# Altium footprint library Soardra.PcbLib: 139 footprints (part 2 of 9)
Each footprint in its own frame and in the unit in brackets; x right, y up, seen from the top. Pads: shape width x height; smd on the part's side, far side on the other; paste and mask are expansions set on the pad; w line width, h text height; cw(c..) or ccw(c..) is an arc to the next point about the centre after c.
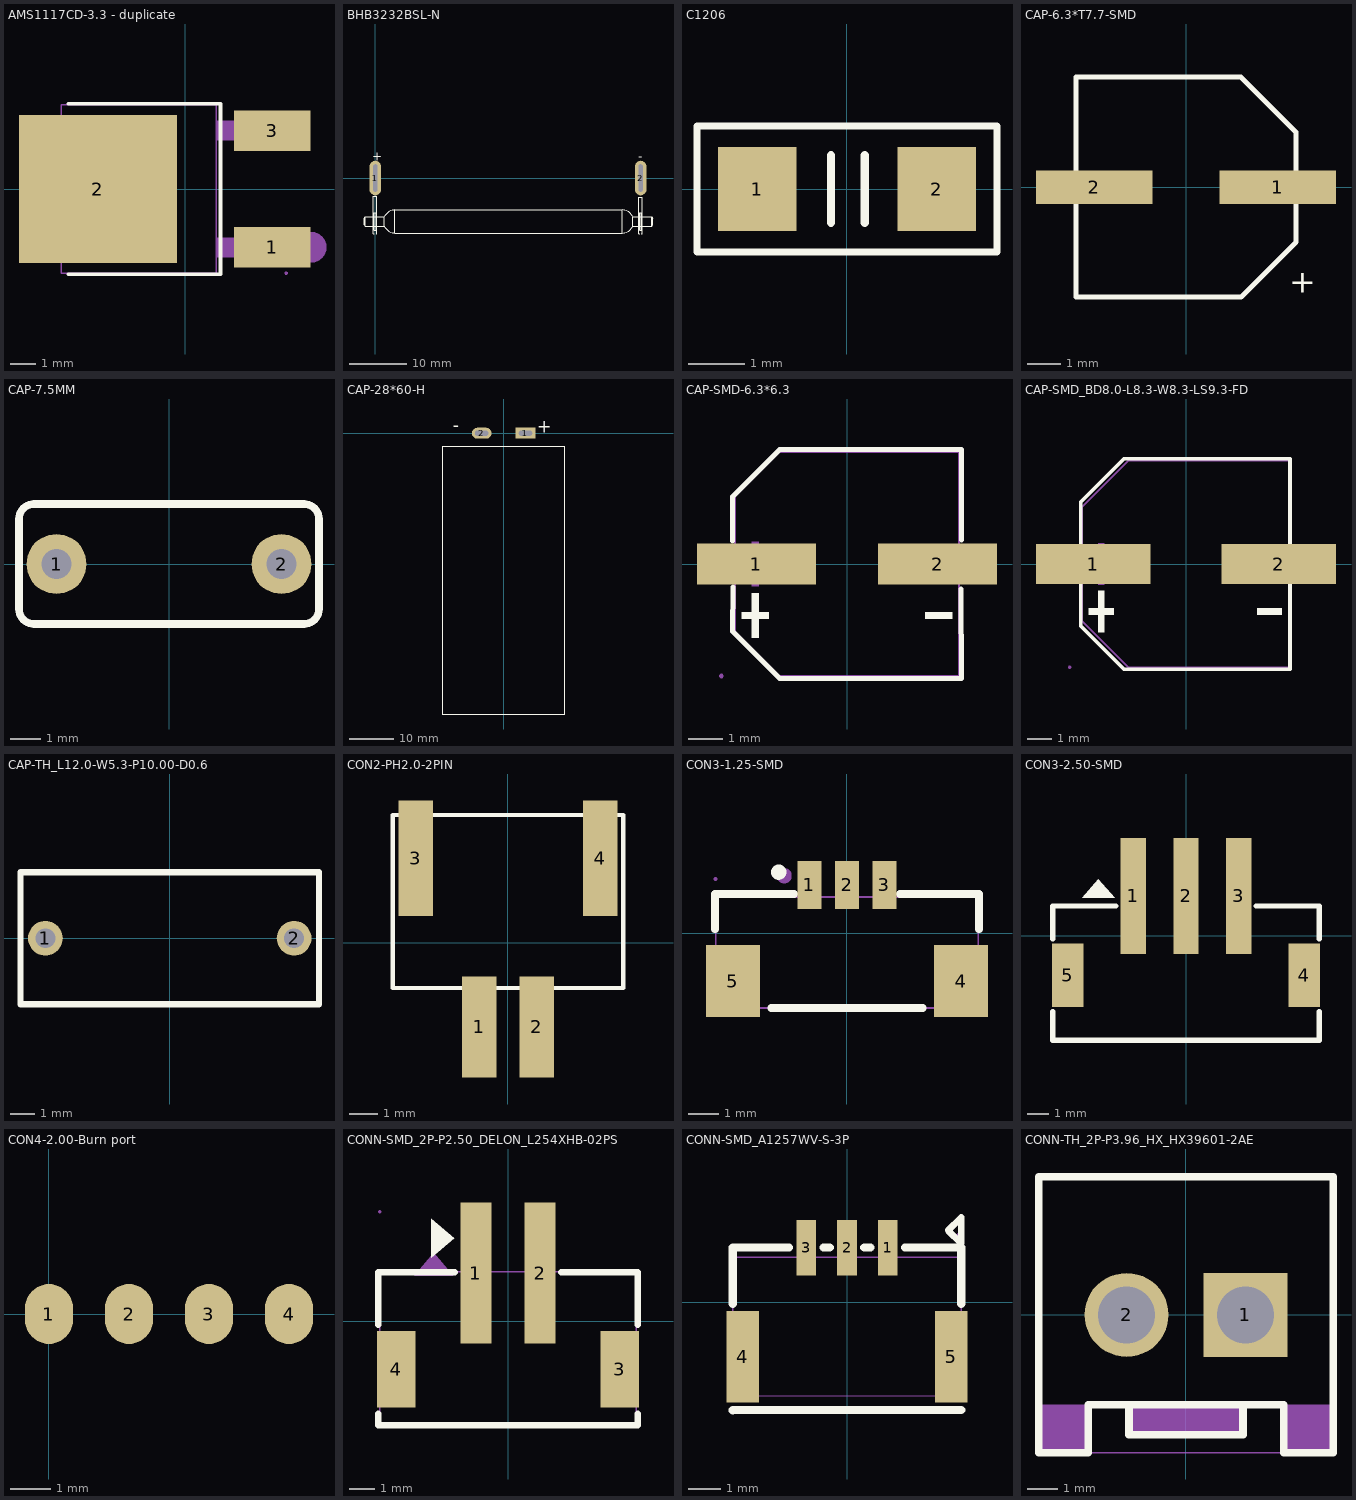
[diagram p1: the footprints below, top view; thin cyan lines are the x and y axes]

## AMS1117CD-3.3 - duplicate [mm] "LDO"
height 0.5
pads (3):
  rect 3x1.6 smd mask+0.051: 1(3.424,-2.29) 3(3.424,2.29)
  rect 6.2x5.8 smd mask+0.051: 2(-3.424,0)
Top Overlay:
  lines w0.152: -4.585,-3.346 1.383,-3.346 1.383,3.346 -4.585,3.346
Mechanical 6:
  circle w0.6: c4.953,-2.286 r0.3
Mechanical 15:
  region: -4.954,2.505 -0.938,2.505 -0.938,-2.505 -4.954,-2.505 -5.954,-1.505 -5.954,1.505
  region: 2.371,1.91 2.371,2.67 3.961,2.67 3.961,1.91
  region: 1.211,1.91 1.211,2.67 2.381,2.67 2.381,1.91
  region: 2.371,-2.67 2.371,-1.91 3.961,-1.91 3.961,-2.67
  region: 1.211,-2.67 1.211,-1.91 2.381,-1.91 2.381,-2.67
  region: 4.021,-3.3 4.021,-3.275 3.986,-3.24 3.937,-3.24 3.901,-3.275 3.901,-3.3 3.901,-3.325 3.937,-3.36 3.986,-3.36 4.021,-3.325 4.021,-3.3
  lines w0.051: -4.874,-3.3 -4.874,3.3 1.221,3.3 1.221,-3.3 -4.874,-3.3

## BHB3232BSL-N [mm]
height 0.5
pads (2):
  oval 2x6 hole 0.7 slot 4.7 at 90 deg: 1(0,0) 2(46,0)
Top Overlay:
  lines w0.15: -0.18,-9.694 -0.33,-9.694 -0.33,-3.163 0.27,-3.163 0.27,-9.694 0.12,-9.694 ; 45.82,-9.694 45.67,-9.694 45.67,-3.343 46.27,-3.343 46.27,-9.694 46.12,-9.694 ; -1.703,-8.329 -1.703,-6.729 ; -1.703,-8.329 1.564,-8.329 ; -1.703,-8.329 -1.903,-8.129 -1.903,-7.529 -1.903,-6.929 -1.703,-6.729 ; -1.703,-6.729 1.564,-6.729 ; 1.564,-8.329 ccw(c3.397,-7.529) 3.397,-9.529 ; 1.564,-8.329 1.564,-7.529 1.564,-6.729 ; 1.564,-6.729 cw(c3.397,-7.529) 3.397,-5.529 ; 3.397,-9.529 3.397,-5.529 ; 3.397,-9.529 42.797,-9.529 ; 3.397,-5.529 42.797,-5.529 ; 42.797,-9.529 ccw(c42.797,-7.529) 44.63,-8.329 ; 42.797,-9.529 42.797,-7.529 42.797,-5.529 ; 42.797,-5.529 cw(c42.797,-7.529) 44.63,-6.729 ; 44.63,-8.329 44.63,-6.729 ; 44.63,-8.329 47.897,-8.329 ; 44.63,-6.729 47.897,-6.729 ; 47.897,-8.329 47.897,-7.529 47.897,-6.729 ; 47.897,-8.329 48.097,-8.129 48.097,-6.929 47.897,-6.729 ; -0.18,-9.044 0.12,-9.044 0.12,-6.044 -0.18,-6.044 -0.18,-9.044 ; 45.82,-9.044 46.12,-9.044 46.12,-6.044 45.82,-6.044 45.82,-9.044
  text "-" at 45.563,4.18 h1.52
  text "+" at -0.503,4.37 h1.52

## C1206 [mm]
pads (2):
  rect 1.4x1.5 smd: 1(-1.6,0) 2(1.6,0)
Top Overlay:
  lines w0.127: -2.675,-1.125 -2.675,1.125 2.675,1.125 2.675,-1.125 -2.675,-1.125
  lines w0.15: -0.285,-0.6 -0.285,0.6 ; 0.315,-0.6 0.315,0.6
3D body "1206_C.step": height 0, standoff -0.94, extent -1.651,-0.762 1.549,0.838

## CAP-6.3*T7.7-SMD [mm]
height 0.5
pads (2):
  rect 3.5x1 smd: 1(2.75,0) 2(-2.75,0)
Top Overlay:
  lines w0.15: -3.3,-3.3 -3.3,3.3 1.65,3.3 3.3,1.65 3.3,-1.65 1.65,-3.3 -3.3,-3.3
  text "+" at 3.098,-3.407 h1.2
3D body: height 8.05, standoff 8, extent -3.378,-2.479 -2.28,2.5
3D body: height 8, standoff 1, extent -3.35,-3.35 3.35,3.35
3D body: height 1, standoff 0, extent -3.3,-3.3 3.3,3.3

## CAP-7.5MM [mm]
pads (2):
  round 2 hole 1: 1(-3.75,0) 2(3.75,0)
Top Overlay:
  lines w0.254: -5,-1.5 ccw(c-4.5,-1.5) -4.5,-2 4.5,-2 ccw(c4.5,-1.5) 5,-1.5 5,1.5 ccw(c4.5,1.5) 4.5,2 -4.5,2 ccw(c-4.5,1.5) -5,1.5 -5,-1.5
3D body: height 9.5, standoff 0, extent -5,-2 5,2

## CAP-28*60-H [mm]
height 0.5
pads (2):
  rect 4.5x2.5 hole 1.2 slot 3 at 0 deg: 1(5,0)
  oval 4.5x2.5 hole 1.2 slot 3 at 0 deg: 2(-5,0)
Top Overlay:
  lines w0.15: -14,-64 13.99,-64 ; -14,-63.99 -14,-3 13.99,-3 ; 14,-64 14,-3
  text "+" at 11.024,-0.934 h5
  text "-" at -10.152,-0.625 h5
3D body: height 18.99, standoff -5.99, extent -12.457,-63.226 12.543,-3.226

## CAP-SMD-6.3*6.3 [mm]
pads (2):
  rect 3.5x1.2 smd mask+0.051: 1(-2.67,0) 2(2.67,0)
Top Overlay:
  region: 3.102,-1.419 3.102,-1.617 2.31,-1.617 2.31,-1.419
  region: -3.102,-1.419 -3.102,-1.617 -2.31,-1.617 -2.31,-1.419
  region: -2.805,-0.858 -2.805,-2.178 -2.607,-2.178 -2.607,-0.858
  lines w0.152: -3.376,0.686 -3.376,1.98 -1.98,3.376 3.376,3.376 3.369,0.708 ; -3.362,-0.686 -3.376,-1.981 -1.981,-3.376 3.376,-3.376 3.356,-0.739
Mechanical 6:
  region: 3.102,0.099 3.102,-0.099 2.31,-0.099 2.31,0.099
  region: -3.102,0.099 -3.102,-0.099 -2.31,-0.099 -2.31,0.099
  region: -2.805,0.66 -2.805,-0.66 -2.607,-0.66 -2.607,0.66
Mechanical 15:
  region: -3.702,0.35 -1.052,0.35 -1.052,-0.35 -3.702,-0.35
  region: 1.052,0.35 3.701,0.35 3.701,-0.35 1.052,-0.35
  region: -3.642,-3.3 -3.642,-3.275 -3.677,-3.24 -3.727,-3.24 -3.762,-3.275 -3.762,-3.3 -3.762,-3.325 -3.727,-3.36 -3.677,-3.36 -3.642,-3.325
  lines w0.051: -3.3,-1.98 -1.98,-3.3 3.3,-3.3 3.3,3.3 -1.98,3.3 -3.3,1.98 -3.3,-1.98

## CAP-SMD_BD8.0-L8.3-W8.3-LS9.3-FD [mm]
pads (2):
  rect 4.6x1.6 smd: 1(-3.724,0) 2(3.724,0)
Top Overlay:
  region: 3.851,-1.785 3.851,-2.033 2.855,-2.033 2.855,-1.785
  region: -3.901,-1.785 -3.901,-2.033 -2.905,-2.033 -2.905,-1.785
  region: -3.528,-1.079 -3.528,-2.739 -3.279,-2.739 -3.279,-1.079
  lines w0.152: -4.227,-0.782 -4.227,-2.49 -2.49,-4.226 4.176,-4.226 4.176,-0.782 ; -4.227,0.782 -4.227,2.49 -2.49,4.226 4.176,4.226 4.176,0.782
Mechanical 6:
  region: 3.851,0.125 3.851,-0.125 2.855,-0.125 2.855,0.125
  region: -3.901,0.125 -3.901,-0.125 -2.905,-0.125 -2.905,0.125
  region: -3.528,0.83 -3.528,-0.83 -3.279,-0.83 -3.279,0.83
Mechanical 15:
  region: -4.616,-4.152 -4.616,-4.127 -4.651,-4.092 -4.701,-4.092 -4.736,-4.127 -4.736,-4.152 -4.736,-4.176 -4.701,-4.212 -4.651,-4.212 -4.616,-4.176 -4.616,-4.152
  region: -4.676,0.65 -1.776,0.65 -1.776,-0.65 -4.676,-0.65
  region: 1.728,0.65 4.628,0.65 4.628,-0.65 1.728,-0.65
  lines w0.051: -4.175,-2.294 -2.324,-4.148 4.126,-4.152 4.128,4.148 -2.321,4.148 -2.326,4.149 -4.176,2.299 -4.175,-2.294

## CAP-TH_L12.0-W5.3-P10.00-D0.6 [mm]
pads (2):
  round 1.4 hole 0.8: 1(-5,0) 2(5,0)
Top Overlay:
  lines w0.254: -6,-2.65 6,-2.65 6,2.65 -6,2.65 -6,-2.65
Mechanical 15:
  region: -5.94,-2.65 -5.94,-2.625 -5.975,-2.59 -6.025,-2.59 -6.06,-2.625 -6.06,-2.65 -6.06,-2.675 -6.025,-2.71 -5.975,-2.71 -5.94,-2.675 -5.94,-2.65
  region: 5.3,0 5.3,0.06 5.254,0.17 5.17,0.254 5.06,0.3 4.94,0.3 4.83,0.254 4.746,0.17 4.7,0.06 4.7,0 4.7,-0.06 4.746,-0.17 4.83,-0.254 4.94,-0.3 5.06,-0.3 5.17,-0.254 5.254,-0.17 5.3,-0.06 5.3,0
  region: -4.7,0 -4.7,0.06 -4.746,0.17 -4.83,0.254 -4.94,0.3 -5.06,0.3 -5.17,0.254 -5.254,0.17 -5.3,0.06 -5.3,0 -5.3,-0.06 -5.254,-0.17 -5.17,-0.254 -5.06,-0.3 -4.94,-0.3 -4.83,-0.254 -4.746,-0.17 -4.7,-0.06 -4.7,0
  lines w0.051: -6,-2.65 -6,2.65 6,2.65 6,-2.65 -6,-2.65

## CON2-PH2.0-2PIN [mm]
height 0.5
pads (4):
  rect 1.2x3.5 smd: 1(-1,-2.925) 2(1,-2.925)
  rect 1.2x4 smd: 3(-3.2,2.925) 4(3.2,2.925)
Top Overlay:
  lines w0.15: -4,-1.575 -4,4.425 4,4.425 4,-1.575 -4,-1.575
3D body: height 5.5, standoff 0, extent -4,-1.575 4,4.425
3D body: height 0.25, standoff 0, extent 0.75,-4.137 1.25,-1.575
3D body: height 0.25, standoff 0, extent -1.25,-4.137 -0.75,-1.575

## CON3-1.25-SMD [mm]
pads (5):
  rect 0.8x1.6 smd mask+0.051: 1(-1.25,1.6) 2(0,1.6) 3(1.25,1.6)
  rect 1.8x2.4 smd mask+0.051: 4(3.8,-1.6) 5(-3.8,-1.6)
Top Overlay:
  circle w0.254: c-2.276,2.027 r0.127
  lines w0.254: -4.4,0.131 -4.4,1.301 -1.768,1.301 ; -2.519,-2.5 2.519,-2.5 ; 1.768,1.301 4.4,1.301 4.4,0.131
Mechanical 6:
  circle w0.254: c-2.096,1.907 r0.127
Mechanical 15:
  region: 1.4,1.8 1.4,1 1.1,1 1.1,1.8
  region: -1.1,1.8 -1.1,1 -1.4,1 -1.4,1.8
  region: 0.15,1.8 0.15,1 -0.15,1 -0.15,1.8
  region: -3.08,-2.5 -4.38,-2.5 -4.38,-0.7 -3.08,-0.7
  region: 4.37,-2.5 3.07,-2.5 3.07,-0.7 4.37,-0.7
  region: -4.32,1.8 -4.32,1.825 -4.355,1.86 -4.405,1.86 -4.44,1.825 -4.44,1.8 -4.44,1.775 -4.405,1.74 -4.355,1.74 -4.32,1.775
  lines w0.051: -4.38,-2.5 4.37,-2.5 4.37,1.2 -4.38,1.2 -4.38,-2.5

## CON3-2.50-SMD [mm]
pads (5):
  rect 1.2x5.5 smd mask+0.05: 1(-2.5,1.875) 2(0,1.875) 3(2.5,1.875)
  rect 1.5x3 smd mask+0.05: 4(5.6,-1.875) 5(-5.6,-1.875)
Top Overlay:
  region: -4.144,2.667 -4.906,1.778 -3.382,1.778
  lines w0.254: -6.303,-3.606 -6.303,-4.952 6.303,-4.952 6.303,-3.606 ; -6.303,-0.144 -6.303,1.397 -3.331,1.397 ; 3.331,1.397 6.303,1.397 6.303,-0.144
3D body "User Library-XH2_54-3P-L.STEP": height 7, standoff -0.3, extent -5.015,-4.777 4.985,2.073

## CON4-2.00-Burn port [mm]
height 1.14
pads (4):
  oval 1.2x1.5 smd: 1(0,0) 2(2,0) 3(4,0) 4(6,0)

## CONN-SMD_2P-P2.50_DELON_L254XHB-02PS [mm]
pads (4):
  rect 1.2x5.5 smd mask+0.05: 1(-1.25,1.875) 2(1.25,1.875)
  rect 1.5x3 smd mask+0.05: 3(4.35,-1.875) 4(-4.35,-1.875)
Top Overlay:
  region: -2.095,3.238 -2.984,4 -2.984,2.476
  lines w0.254: -5.053,-4.064 -5.053,-3.606 ; -5.053,-0.144 -5.053,1.905 -2.081,1.905 ; -4.953,-4.064 5.053,-4.064 5.053,-3.606 ; 2.081,1.905 5.053,1.905 5.053,-0.144
Mechanical 6:
  region: -2.894,2.667 -3.656,1.778 -2.132,1.778
Mechanical 15:
  region: 3.85,-0.775 4.85,-0.775 4.85,-2.975 3.85,-2.975
  region: -4.85,-0.775 -3.85,-0.775 -3.85,-2.975 -4.85,-2.975
  region: 0.93,4.271 1.57,4.271 1.57,1.271 0.93,1.271
  region: -1.57,4.271 -0.93,4.271 -0.93,1.271 -1.57,1.271
  region: -4.94,4.271 -4.94,4.296 -4.975,4.331 -5.025,4.331 -5.06,4.296 -5.06,4.271 -5.06,4.246 -5.025,4.211 -4.975,4.211 -4.94,4.246 -4.94,4.271
  lines w0.051: -5,-4.029 5,-4.029 5,1.921 -5,1.921 -5,-4.029

## CONN-SMD_A1257WV-S-3P [mm]
pads (5):
  rect 0.6x1.7 smd: 1(1.25,1.675) 2(0,1.675) 3(-1.25,1.675)
  rect 1x2.8 smd: 4(-3.2,-1.675) 5(3.2,-1.675)
Top Overlay:
  lines w0.2: 3.1,2.2 3.5,1.8 3.5,2.6 3.1,2.2
  lines w0.254: -3.5,-3.325 -3.5,-3.306 3.5,-3.306 ; -3.5,-0.044 -3.5,1.675 -1.781,1.675 ; -0.719,1.675 -0.531,1.675 ; 0.531,1.675 0.719,1.675 ; 1.781,1.675 3.5,1.675 3.5,-0.044
Mechanical 15:
  region: 2.8,-0.38 3.5,-0.38 3.5,-2.88 2.8,-2.88
  region: -3.5,-0.38 -2.8,-0.38 -2.8,-2.88 -3.5,-2.88
  region: 1.15,2.075 1.35,2.075 1.35,1.275 1.15,1.275
  region: -0.1,2.075 0.1,2.075 0.1,1.275 -0.1,1.275
  region: -1.35,2.075 -1.15,2.075 -1.15,1.275 -1.35,1.275
  region: 3.55,2.025 3.55,2.066 3.492,2.125 3.409,2.125 3.35,2.066 3.35,2.025 3.35,1.984 3.409,1.925 3.492,1.925 3.55,1.984 3.55,2.025
  lines w0.051: -3.5,1.37 -3.49,-2.87 3.5,-2.88 3.5,1.38 -3.5,1.37

## CONN-TH_2P-P3.96_HX_HX39601-2AE [mm]
pads (2):
  rect 2.8x2.8 hole 1.9 paste+0 mask+0.05: 1(1.98,0)
  round 2.8 hole 1.9 paste+0 mask+0.05: 2(-1.98,0)
Top Overlay:
  lines w0.254: -1.9,-3 -1.9,-4 1.9,-4 1.9,-3 ; -4.91,-4.6 -3.26,-4.6 -3.26,-3 3.26,-3 3.26,-4.6 4.91,-4.6 4.91,4.6 -4.91,4.6 -4.91,-4.6
Mechanical 6:
  region: 5,-4.6 5,-3 3.2,-3 3.2,-4.6
  region: -5,-3 -5,-4.6 -3.2,-4.6 -3.2,-3
  region: -1.9,-3 -1.9,-4 1.9,-4 1.9,-3
Mechanical 15:
  region: 1.41,0.57 2.55,0.57 2.55,-0.57 1.41,-0.57
  region: -2.55,0.57 -1.41,0.57 -1.41,-0.57 -2.55,-0.57
  region: 4.96,4.6 4.96,4.625 4.925,4.66 4.875,4.66 4.84,4.625 4.84,4.6 4.84,4.575 4.875,4.54 4.925,4.54 4.96,4.575 4.96,4.6
  lines w0.051: -4.9,-4.6 4.9,-4.6 4.9,4.6 -4.9,4.6 -4.9,-4.6